# Altium footprint library miniSMDC014.PcbLib: 1 footprints
Each footprint in its own frame and in the unit in brackets; x right, y up, seen from the top. Pads: shape width x height; smd on the part's side, far side on the other; paste and mask are expansions set on the pad; w line width, h text height; cw(c..) or ccw(c..) is an arc to the next point about the centre after c.
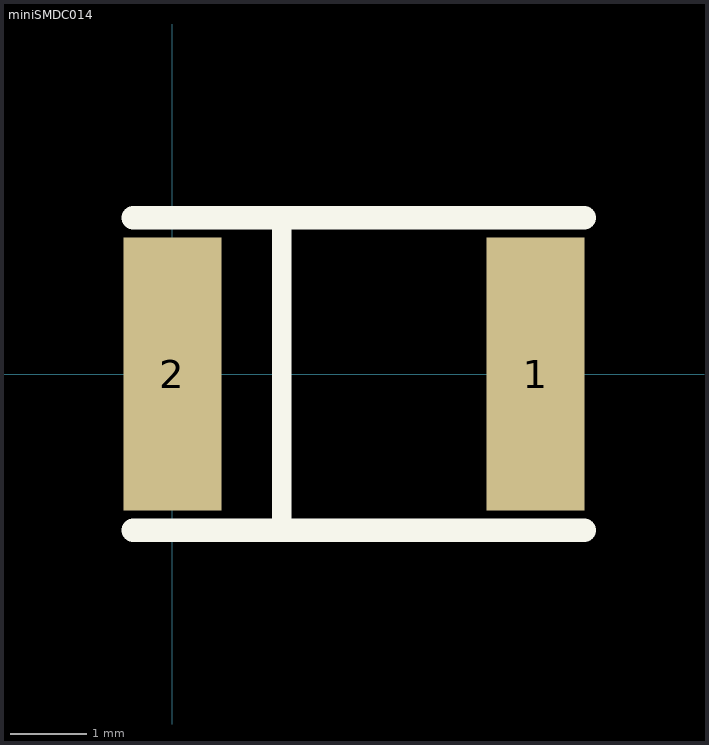
[diagram p0: the footprint, top view; thin cyan lines are the x and y axes]

## miniSMDC014 [mil]
height 0.52
pads (2):
  rect 50x140 smd: 1(186,0) 2(0,0)
TopOverlay:
  lines w10: 56,-80 56,80
  lines w12: -20,-80 211,-80 ; -20,80 211,80
Mechanical4:
  text ".055" at 0,0 h1
3D body: height 40.75, standoff 0, extent 1.69,-68.5 188.11,68.5